# EAGLE library part SSD1306_128X64_V2_LCD (library open_hw_sockets)
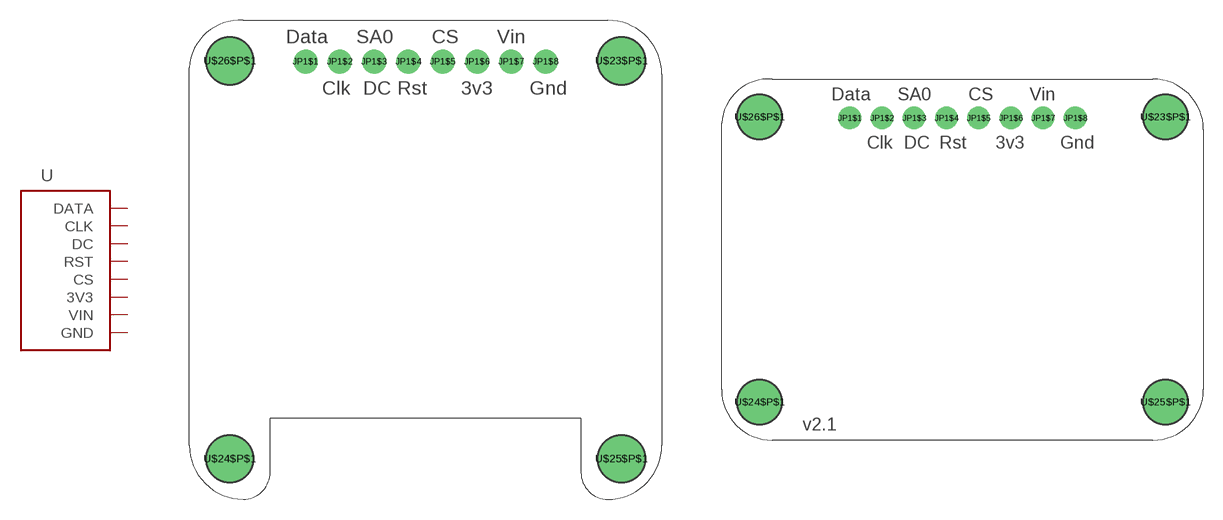
[diagram p7: symbol with the pads of SSD1306_128X64_1.3IN_LCD; footprints SSD1306_128X64_1.3IN_LCD, SSD1306_128X64_0.96IN_LCD]

Designator prefix -

## SSD1306_128X64_V2_LCD  [SSD1306_128X64_1.3IN_LCD]
JP1$1  DATA
JP1$2  CLK
JP1$3  DC
JP1$4  RST
JP1$5  CS
JP1$6  3V3
JP1$7  VIN  pwr
JP1$8  GND  pwr
U$23$P$1  GND  pwr
U$24$P$1  GND  pwr
U$25$P$1  GND  pwr
U$26$P$1  GND  pwr

## SSD1306_128X64_V2_LCD0.96IN  [SSD1306_128X64_0.96IN_LCD]
Pads as for SSD1306_128X64_1.3IN_LCD

## SSD1306_128X64_V2_LCD0.96IN_MIN  [SSD1306_128X64_0.96IN_MIN_LCD]
JP1$1  DATA
JP1$2  CLK
JP1$3  DC
JP1$4  RST
JP1$5  CS
JP1$6  3V3
JP1$7  VIN  pwr
JP1$8  GND  pwr

## SSD1306_128X64_V2_LCD0.96IN_TOP  [SSD1306_128X64_0.96IN_LCD_TOP]
Pads as for SSD1306_128X64_1.3IN_LCD

## SSD1306_128X64_V2_LCD1.3IN_TOP  [SSD1306_128X64_1.3IN_LCD_TOP]
Pads as for SSD1306_128X64_1.3IN_LCD

## SSD1306_128X64_V2_LCD0.96IN_LEVER  [SSD1306_128X64_0.96IN_LCD_LEVER]
JP1$1  DATA
JP1$2  CLK
JP1$3  DC
JP1$4  RST
JP1$5  CS
JP1$6  3V3
JP1$7  VIN  pwr
JP1$8  GND  pwr
U$23$P$1  GND  pwr
U$26$P$1  GND  pwr

## SSD1306_128X64_V2_LCD0.96IN_NOMNT  [SSD1306_128X64_0.96IN_LCD_NOMNT]
Pads as for SSD1306_128X64_0.96IN_MIN_LCD

## SSD1306_128X64_V2_LCD0.96IN_MNT  [SSD1306_128X64_0.96IN_LCD_MNT]
JP1$1  DATA
JP1$2  CLK
JP1$3  DC
JP1$4  RST
JP1$5  CS
JP1$6  3V3
JP1$7  VIN  pwr
JP1$8  GND  pwr
U$24$P$1  GND  pwr
U$25$P$1  GND  pwr

## SSD1306_128X64_V2_LCD1.3IN_LEVER  [SSD1306_128X64_1.3IN_LCD_LEVER]
Pads as for SSD1306_128X64_0.96IN_LCD_LEVER

## SSD1306_128X64_V2_LCD0.96IN_MNT_NOOUT  [SSD1306_128X64_0.96IN_LCD_MNT_NOOUT]
Pads as for SSD1306_128X64_0.96IN_LCD_MNT

## Footprint SSD1306_128X64_1.3IN_LCD (pad centres in mm)
drill 1 pad 1.778: JP1$1 8.61,32.43; JP1$2 11.15,32.43; JP1$3 13.69,32.43; JP1$4 16.23,32.43; JP1$5 18.77,32.43; JP1$6 21.31,32.43; JP1$7 23.85,32.43; JP1$8 26.39,32.43
drill 2.5 pad 3.2: U$23$P$1 32,32.5; U$24$P$1 3,3; U$25$P$1 32,3; U$26$P$1 3,32.5

## Footprint SSD1306_128X64_0.96IN_LCD (pad centres in mm)
drill 1 pad 1.778: JP1$1 10.11,25.43; JP1$2 12.65,25.43; JP1$3 15.19,25.43; JP1$4 17.73,25.43; JP1$5 20.27,25.43; JP1$6 22.81,25.43; JP1$7 25.35,25.43; JP1$8 27.89,25.43
drill 2.5 pad 3.2: U$23$P$1 35,25.5; U$24$P$1 3,3; U$25$P$1 35,3; U$26$P$1 3,25.5

## Footprint SSD1306_128X64_0.96IN_MIN_LCD (pad centres in mm)
drill 1 pad 1.778: JP1$1 10.11,25.43; JP1$2 12.65,25.43; JP1$3 15.19,25.43; JP1$4 17.73,25.43; JP1$5 20.27,25.43; JP1$6 22.81,25.43; JP1$7 25.35,25.43; JP1$8 27.89,25.43

## Footprint SSD1306_128X64_0.96IN_LCD_TOP (pad centres in mm)
drill 1 pad 1.778: JP1$1 10.11,25.43; JP1$2 12.65,25.43; JP1$3 15.19,25.43; JP1$4 17.73,25.43; JP1$5 20.27,25.43; JP1$6 22.81,25.43; JP1$7 25.35,25.43; JP1$8 27.89,25.43
drill 2.5 pad 3.2: U$23$P$1 35,25.5; U$24$P$1 3,3; U$25$P$1 35,3; U$26$P$1 3,25.5

## Footprint SSD1306_128X64_1.3IN_LCD_TOP (pad centres in mm)
drill 1 pad 1.778: JP1$1 8.61,32.43; JP1$2 11.15,32.43; JP1$3 13.69,32.43; JP1$4 16.23,32.43; JP1$5 18.77,32.43; JP1$6 21.31,32.43; JP1$7 23.85,32.43; JP1$8 26.39,32.43
drill 2.5 pad 3.2: U$23$P$1 32,32.5; U$24$P$1 3,3; U$25$P$1 32,3; U$26$P$1 3,32.5

## Footprint SSD1306_128X64_0.96IN_LCD_LEVER (pad centres in mm)
drill 1 pad 1.778: JP1$1 10.11,25.43; JP1$2 12.65,25.43; JP1$3 15.19,25.43; JP1$4 17.73,25.43; JP1$5 20.27,25.43; JP1$6 22.81,25.43; JP1$7 25.35,25.43; JP1$8 27.89,25.43
drill 2.5 pad 3.2: U$23$P$1 35,25.5; U$26$P$1 3,25.5

## Footprint SSD1306_128X64_0.96IN_LCD_NOMNT (pad centres in mm)
drill 1 pad 1.778: JP1$1 10.11,25.43; JP1$2 12.65,25.43; JP1$3 15.19,25.43; JP1$4 17.73,25.43; JP1$5 20.27,25.43; JP1$6 22.81,25.43; JP1$7 25.35,25.43; JP1$8 27.89,25.43

## Footprint SSD1306_128X64_0.96IN_LCD_MNT (pad centres in mm)
drill 1 pad 1.778: JP1$1 10.11,25.43; JP1$2 12.65,25.43; JP1$3 15.19,25.43; JP1$4 17.73,25.43; JP1$5 20.27,25.43; JP1$6 22.81,25.43; JP1$7 25.35,25.43; JP1$8 27.89,25.43
drill 2.5 pad 3.2: U$24$P$1 3,3; U$25$P$1 35,3

## Footprint SSD1306_128X64_1.3IN_LCD_LEVER (pad centres in mm)
drill 1 pad 1.778: JP1$1 8.61,32.43; JP1$2 11.15,32.43; JP1$3 13.69,32.43; JP1$4 16.23,32.43; JP1$5 18.77,32.43; JP1$6 21.31,32.43; JP1$7 23.85,32.43; JP1$8 26.39,32.43
drill 2.5 pad 3.2: U$23$P$1 32,32.5; U$26$P$1 3,32.5

## Footprint SSD1306_128X64_0.96IN_LCD_MNT_NOOUT (pad centres in mm)
drill 1 pad 1.778: JP1$1 10.11,25.43; JP1$2 12.65,25.43; JP1$3 15.19,25.43; JP1$4 17.73,25.43; JP1$5 20.27,25.43; JP1$6 22.81,25.43; JP1$7 25.35,25.43; JP1$8 27.89,25.43
drill 2.5 pad 3.2: U$24$P$1 3,3; U$25$P$1 35,3